# Altium schematic symbol library LMV1032URX-25_NOPB.SchLib: 1 symbol
Pins are listed as number, name and electrical type; pins without a type are passive.

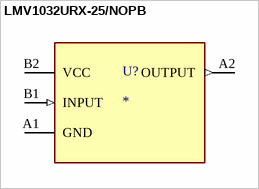
[diagram p0: symbol LMV1032URX-25/NOPB]

## LMV1032URX-25/NOPB
designator U?
Analog input microphone preamplifier for 3-wire electret microphones; MF: Texas Instruments; MP: LMV1032URX-25/NOPB; SnapEDA_Link: https://www.snapeda.com/parts/LMV1032URX-25/NOPB/Texas+Instruments/view-part/?ref=snap; Price: None; Check_prices: https://www.snapeda.com/parts/LMV1032URX-25/NOPB/Texas+Instruments/view-part/?ref=eda; Purchase-URL: https://pricing.snapeda.com/search/part/LMV1032URX-25/NOPB/?ref=eda; Value: *; Package: DSBGA-4 Texas Instruments; Availability: In Stock
footprint BGA4C2X2X50P_117X117X42
pins: A1 GND, A2 OUTPUT (out), B1 INPUT (in), B2 VCC (power)